# EAGLE library part MIC4427 (library Microchip)
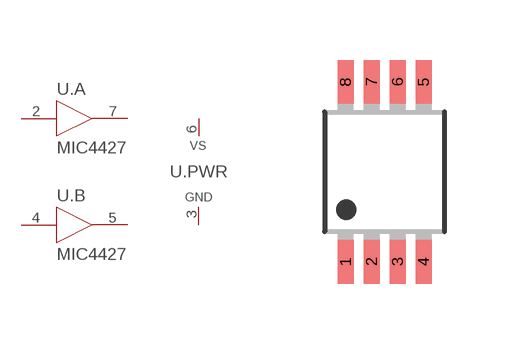
[diagram p66: symbol with the pads of MSOP8; footprint MSOP8]

Designator prefix U; gates .PWR=MIC442X_PWR .A=MIC442X_BUF .B=MIC442X_BUF

## MIC4427BMM  [MSOP8]
2  .A:A  in
3  .PWR:GND  pwr
4  .B:A  in
5  .B:Y  out
6  .PWR:VS  pwr
7  .A:Y  out

## Footprint MSOP8 (pad centres in mm)
smd 0.4 x 1.1: 1 -0.975,-2.25; 2 -0.325,-2.25; 3 0.325,-2.25; 4 0.975,-2.25; 5 0.975,2.25; 6 0.325,2.25; 7 -0.325,2.25; 8 -0.975,2.25